# Altium footprint library Parts.PcbLib: 53 footprints (part 2 of 4)
Each footprint in its own frame and in the unit in brackets; x right, y up, seen from the top. Pads: shape width x height; smd on the part's side, far side on the other; paste and mask are expansions set on the pad; w line width, h text height; cw(c..) or ccw(c..) is an arc to the next point about the centre after c.
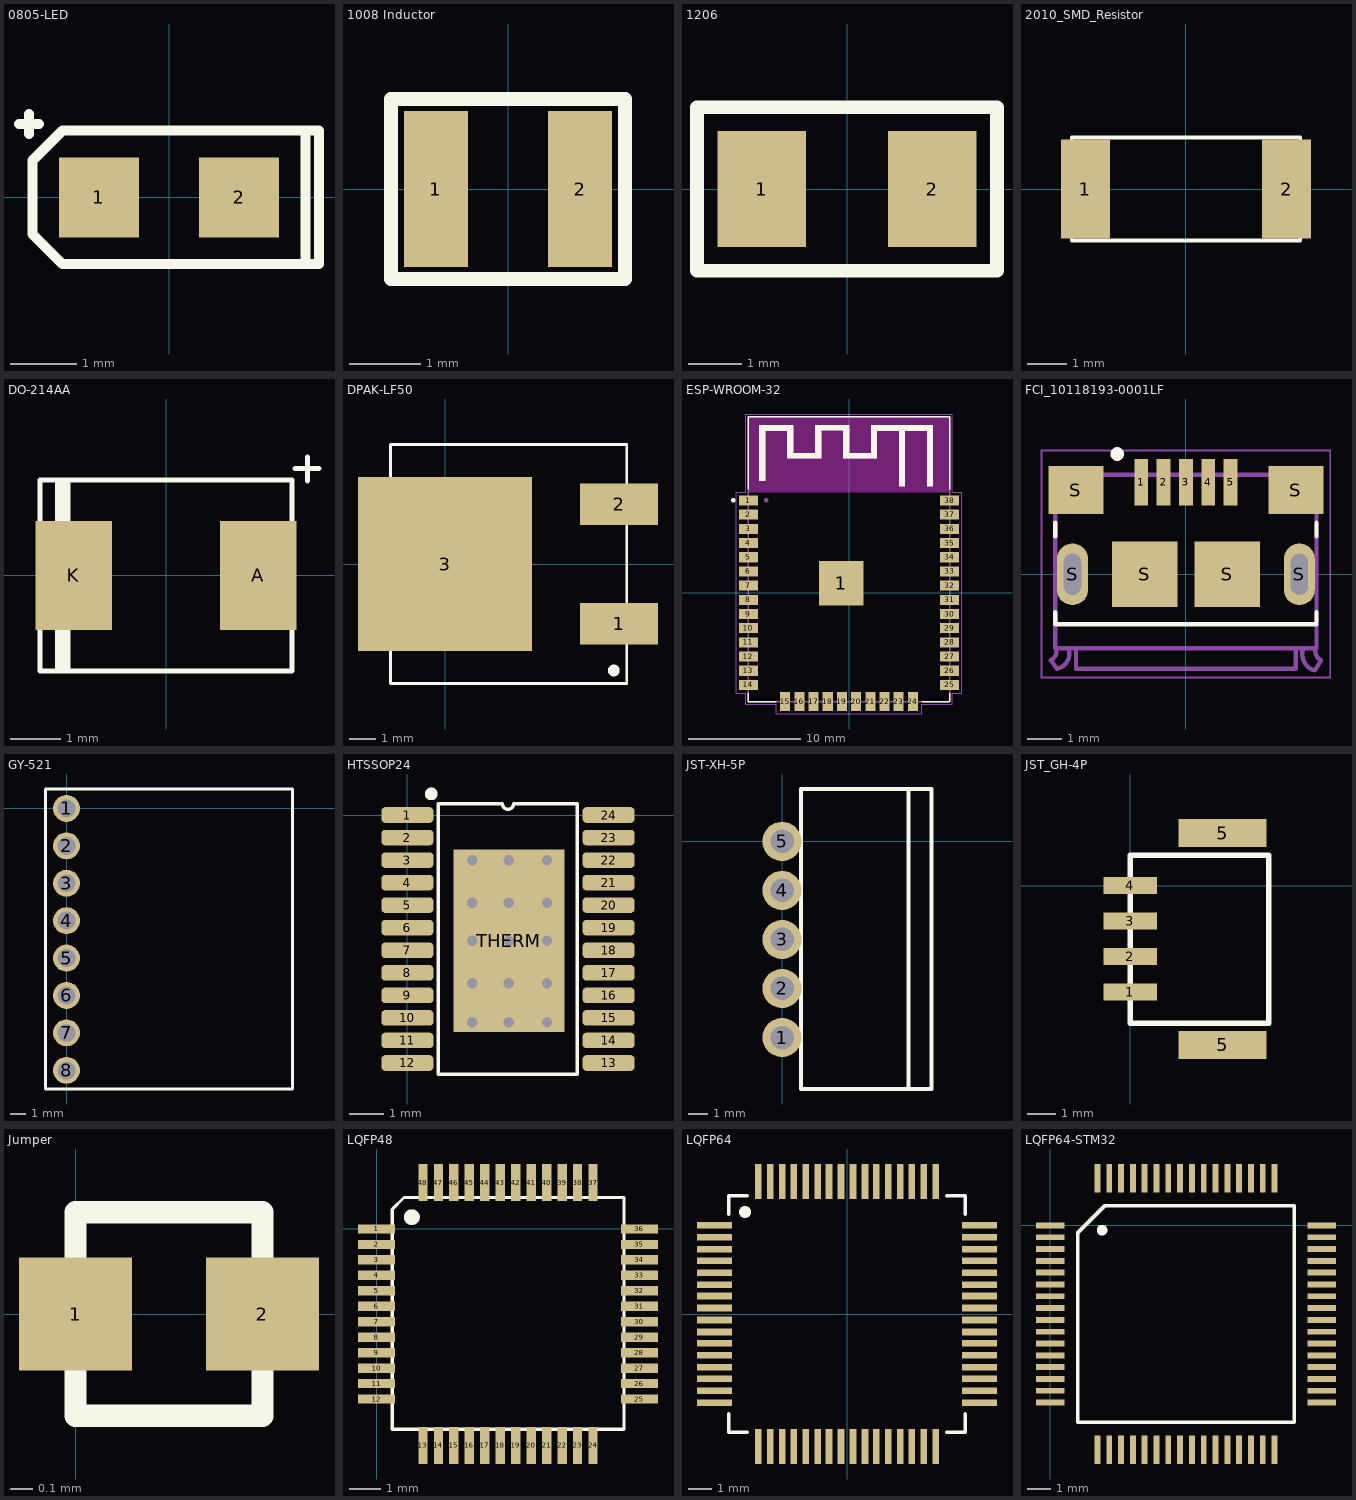
[diagram p1: the footprints below, top view; thin cyan lines are the x and y axes]

## 0805-LED [mm]
pads (2):
  rect 1.2x1.2 smd: 1(-1.05,0) 2(1.05,0)
Top Overlay:
  lines w0.15: -2.25,1.1 -1.95,1.1 ; -2.1,0.95 -2.1,1.25 ; 2.05,-1 2.05,1 ; -2.05,-0.55 -2.05,0 -2.05,0.55 -1.6,1 2.25,1 2.25,-1 -1.6,-1 -2.05,-0.55

## 1008 Inductor [mm]
pads (2):
  rect 0.9x2.2 smd: 1(-1.016,0) 2(1.016,0)
Top Overlay:
  lines w0.2: -1.651,-1.27 1.651,-1.27 1.651,1.27 -1.651,1.27 -1.651,0.351 -1.651,-1.27

## 1206 [mil]
pads (2):
  rect 65x85 smd: 1(-62.5,0) 2(62.5,0)
Top Overlay:
  lines w10: -110,-60 110,-60 110,60 -110,60 -110,12.5 -110,-60

## 2010_SMD_Resistor [mm]
pads (2):
  rect 1.245x2.54 smd: 1(-2.578,0) 2(2.579,0)
Top Overlay:
  lines w0.1: -2.931,-1.321 -2.931,0 -2.931,1.321 2.931,1.321 2.931,-1.321 -2.931,-1.321

## DO-214AA [mm]
pads (2):
  rect 1.52x2.18 smd: A(1.84,0) K(-1.839,0)
Top Overlay:
  rectangle: -2.159,-1.905 -1.905,1.905
  lines w0.1: -2.159,-1.905 -2.159,1.905 ; 2.565,2.134 3.048,2.134 ; 2.819,1.88 2.819,2.362 ; -2.509,-1.905 -2.509,0 -2.509,1.905 2.509,1.905 2.509,-1.905 -2.509,-1.905

## DPAK-LF50 [mm]
pads (3):
  rect 3x1.6 smd: 1(6.7,-2.3) 2(6.7,2.3)
  rect 6.7x6.7 smd: 3(0,0)
Top Overlay:
  circle w0.254: c6.5,-4.1 r0.1
  lines w0.1: -2.1,-4.6 -2.1,4.6 7,4.6 7,-4.6 -2.1,-4.6

## ESP-WROOM-32 [mm]
pads (39):
  rect 1.7x0.9 smd: 1(-9,8.255) 2(-9,6.985) 3(-9,5.715) 4(-9,4.445) 5(-9,3.175) 6(-9,1.905) 7(-9,0.635) 8(-9,-0.635) 9(-9,-1.905) 10(-9,-3.175) 11(-9,-4.445) 12(-9,-5.715) 13(-9,-6.985) 14(-9,-8.255) 25(9,-8.255) 26(9,-6.985) 27(9,-5.715) 28(9,-4.445) 29(9,-3.175) 30(9,-1.905) 31(9,-0.635) 32(9,0.635) 33(9,1.905) 34(9,3.175) 35(9,4.445) 36(9,5.715) 37(9,6.985) 38(9,8.255)
  rect 4x4 smd: 1(-0.7,0.845)
  rect 0.9x1.7 smd: 15(-5.715,-9.755) 16(-4.445,-9.755) 17(-3.175,-9.755) 18(-1.905,-9.755) 19(-0.635,-9.755) 20(0.635,-9.755) 21(1.905,-9.755) 22(3.175,-9.755) 23(4.445,-9.755) 24(5.715,-9.755)
Top Overlay:
  circle w0.2: c-10.365,8.275 r0.1
  region: 2.008,15 2.5,15 2.5,13.554 2.008,13.554
  region: -8.02,10.5 -7.5,10.5 -7.5,10.025 -8.02,10.025
  region: 4.508,10 5,10 5,9.517 4.508,9.517
  region: 7.019,10 7.5,10 7.5,9.526 7.019,9.526
  region: 4.514,15 5,15 5,10.031 4.514,10.031
  region: 7.021,15 7.5,15 7.5,10.03 7.021,10.03
  region: 2.012,15 7.5,15 7.5,14.514 2.012,14.514
  region: 2.009,14.5 2.5,14.5 2.5,12.053 2.009,12.053
  region: -0.502,12.5 2.5,12.5 2.5,12.05 -0.502,12.05
  region: -0.502,14.5 0,14.5 0,12.049 -0.502,12.049
  region: -3.01,15 0,15 0,14.549 -3.01,14.549
  region: -3.01,14.5 -2.5,14.5 -2.5,12.041 -3.01,12.041
  region: -5.508,12.5 -2.5,12.5 -2.5,12.018 -5.508,12.018
  region: -5.522,14.5 -5,14.5 -5,12.047 -5.522,12.047
  region: -8.009,15 -5,15 -5,14.516 -8.009,14.516
  region: -8.022,15 -7.5,15 -7.5,10.529 -8.022,10.529
  lines w0.127: -9,-9 -9,-9.75 -6.5,-9.75 ; -9,9.25 -9,15.75 9,15.75 9,9.25 ; 6.5,-9.75 9,-9.75 9,-9
Keep-Out Layer:
  region: -9.024,15.75 9,15.75 9,9.024 -9.024,9.024
  region: -9.012,15.75 9,15.75 9,9.012 -9.012,9.012
  region: -9.026,15.75 9,15.75 9,9.026 -9.026,9.026
  region: -9.024,15.75 9,15.75 9,9.024 -9.024,9.024
  region: -9.012,15.75 9,15.75 9,9.012 -9.012,9.012
  region: -9.026,15.75 9,15.75 9,9.026 -9.026,9.026
  region: -9.024,15.75 9,15.75 9,9.024 -9.024,9.024
  region: -9.012,15.75 9,15.75 9,9.012 -9.012,9.012
  region: -9.026,15.75 9,15.75 9,9.026 -9.026,9.026
Mechanical 4:
  circle w0.2: c-7.425,8.275 r0.1
  circle w0.2: c-7.425,8.275 r0.1
  region: 2.008,15 2.5,15 2.5,13.551 2.008,13.551
  region: -8.027,10.5 -7.5,10.5 -7.5,10.033 -8.027,10.033
  region: 4.523,10 5,10 5,9.548 4.523,9.548
  region: 7.022,10 7.5,10 7.5,9.529 7.022,9.529
  region: 4.515,15 5,15 5,10.033 4.515,10.033
  region: 7.026,15 7.5,15 7.5,10.037 7.026,10.037
  region: 2.015,15 7.5,15 7.5,14.541 2.015,14.541
  region: 2.008,14.5 2.5,14.5 2.5,12.046 2.008,12.046
  region: -0.501,12.5 2.5,12.5 2.5,12.012 -0.501,12.012
  region: -0.502,14.5 0,14.5 0,12.04 -0.502,12.04
  region: -3.006,15 0,15 0,14.531 -3.006,14.531
  region: -3.01,14.5 -2.5,14.5 -2.5,12.041 -3.01,12.041
  region: -5.516,12.5 -2.5,12.5 -2.5,12.034 -5.516,12.034
  region: -5.518,14.5 -5,14.5 -5,12.04 -5.518,12.04
  region: -8.041,15 -5,15 -5,14.574 -8.041,14.574
  region: -8.038,15 -7.5,15 -7.5,10.55 -8.038,10.55
  region: 2.008,15 2.5,15 2.5,13.551 2.008,13.551
  region: -8.027,10.5 -7.5,10.5 -7.5,10.033 -8.027,10.033
  region: 4.523,10 5,10 5,9.548 4.523,9.548
  region: 7.022,10 7.5,10 7.5,9.529 7.022,9.529
  region: 4.515,15 5,15 5,10.033 4.515,10.033
  region: 7.026,15 7.5,15 7.5,10.037 7.026,10.037
  region: 2.015,15 7.5,15 7.5,14.541 2.015,14.541
  region: 2.008,14.5 2.5,14.5 2.5,12.046 2.008,12.046
  region: -0.501,12.5 2.5,12.5 2.5,12.012 -0.501,12.012
  region: -0.502,14.5 0,14.5 0,12.04 -0.502,12.04
  region: -3.006,15 0,15 0,14.531 -3.006,14.531
  region: -3.01,14.5 -2.5,14.5 -2.5,12.041 -3.01,12.041
  region: -5.516,12.5 -2.5,12.5 -2.5,12.034 -5.516,12.034
  region: -5.518,14.5 -5,14.5 -5,12.04 -5.518,12.04
  region: -8.041,15 -5,15 -5,14.574 -8.041,14.574
  region: -8.038,15 -7.5,15 -7.5,10.55 -8.038,10.55
  lines w0.127: -9,-9.755 -9,15.745 ; -9,-9.755 9,-9.755 ; -9,-9.755 -9,15.745 ; -9,-9.755 9,-9.755 ; -9,15.745 9,15.745 ; -9,15.745 9,15.745 ; 9,-9.755 9,15.745 ; 9,-9.755 9,15.745
Mechanical 16:
  lines w0.05: -10.1,-9 -10.1,9 -9.25,9 -9.25,16 9.25,16 9.25,9 10.1,9 10.1,-9 9.25,-9 9.25,-10 6.5,-10 6.5,-10.855 -6.5,-10.855 -6.5,-10 -9.25,-10 -9.25,-9 -10.1,-9

## FCI_10118193-0001LF [mm]
pads (11):
  rect 0.4x1.35 smd: 1(-1.3,2.675) 2(-0.65,2.675) 3(0,2.675) 4(0.65,2.675) 5(1.3,2.675)
  oval 0.9x1.8 hole 0.5 slot 1.2 at 90 deg: S(-3.3,0) S(3.3,0)
  rect 1.6x1.4 smd: S(-3.2,2.45) S(3.2,2.45)
  rect 1.9x1.9 smd: S(-1.2,0) S(1.2,0)
Top Overlay:
  circle w0.2: c-2,3.5 r0.1
  lines w0.127: -3.8,-1.45 3.8,-1.45 ; -3.8,-1.4 -3.8,-1.1 ; -3.8,1.1 -3.8,1.5 ; 3.8,-1.4 3.8,-1.1 ; 3.8,1.1 3.8,1.5
Mechanical 13:
  lines w0.127: -3.93,-2.5 -3.75,-2.75 ; -3.93,-2.5 ccw(c-4.065,-2.235) -3.8,-2.1 ; -3.746,-2.749 ccw(c-3.85,-2.3) -3.401,-2.196 ; -3.2,-2.2 -3.2,-2.75 3.2,-2.75 3.2,-2.2 ; 3.401,-2.198 ccw(c3.875,-2.325) 3.748,-2.799 ; 3.75,-2.8 3.93,-2.5 ; 3.8,-2.1 ccw(c4.065,-2.235) 3.93,-2.5 ; -3.8,-2.1 -3.8,-2.15 3.8,-2.15 3.8,-1.45 3.8,2.9 -3.8,2.9 -3.8,-2.1
Mechanical 15:
  lines w0.05: -4.2,-3 -4.2,3.6 4.2,3.6 4.2,-3 -4.2,-3

## GY-521 [mm]
pads (8):
  round 1.8 hole 1.2: 1(0,0) 2(0,-2.5) 3(0,-5) 4(0,-7.5) 5(0,-10) 6(0,-12.5) 7(0,-15) 8(0,-17.5)
Top Overlay:
  lines w0.2: -1.4,-18.75 15.1,-18.75 15.1,1.3 -1.4,1.3 -1.4,-18.75

## HTSSOP24 [mm]
pads (25):
  rrect50% 1.5x0.45 smd mask+0.05: 1(0,0) 2(0,-0.65) 3(0,-1.3) 4(0,-1.95) 5(0,-2.6) 6(0,-3.25) 7(0,-3.9) 8(0,-4.55) 9(0,-5.2) 10(0,-5.85) 11(0,-6.5) 12(0,-7.15) 13(5.8,-7.15) 14(5.8,-6.5) 15(5.8,-5.85) 16(5.8,-5.2) 17(5.8,-4.55) 18(5.8,-3.9) 19(5.8,-3.25) 20(5.8,-2.6) 21(5.8,-1.95) 22(5.8,-1.3) 23(5.8,-0.65) 24(5.8,0)
  rect 3.2x5.26 smd: THERM(2.925,-3.625)
via 1.875,-1.3 diameter 0.457 hole 0.3
via 4.025,-1.3 diameter 0.457 hole 0.3
via 2.925,-3.625 diameter 0.457 hole 0.3
via 2.925,-1.3 diameter 0.457 hole 0.3
via 1.875,-3.625 diameter 0.457 hole 0.3
via 4.025,-3.625 diameter 0.457 hole 0.3
via 2.925,-5.975 diameter 0.457 hole 0.3
via 1.875,-5.975 diameter 0.457 hole 0.3
via 4.025,-5.975 diameter 0.457 hole 0.3
via 2.925,-4.85 diameter 0.457 hole 0.3
via 1.875,-4.85 diameter 0.457 hole 0.3
via 4.025,-4.85 diameter 0.457 hole 0.3
via 4.025,-2.525 diameter 0.457 hole 0.3
via 2.925,-2.525 diameter 0.457 hole 0.3
via 1.875,-2.525 diameter 0.457 hole 0.3
Top Layer:
  region: 1.325,-6.2
Top Overlay:
  circle w0.254: c0.686,0.61 r0.057
  lines w0.1: 0.889,-7.475 0.889,0.325 2.738,0.325 ccw(c2.9,0.325) 3.062,0.325 4.902,0.325 4.902,-7.475 0.889,-7.475

## JST-XH-5P [mm]
pads (5):
  round 2 hole 1.2: 1(0,-10) 2(0,-7.5) 3(0,-5) 4(0,-2.5) 5(0,0)
Top Overlay:
  lines w0.2: 6.452,-12.624 6.452,2.667 ; 0.965,-12.624 0.965,2.667 7.62,2.667 7.62,-12.624 0.965,-12.624

## JST_GH-4P [mm]
pads (6):
  rect 1.9x0.6 smd: 1(0,-3.75) 2(0,-2.5) 3(0,-1.25) 4(0,0)
  rect 3.1x1 smd: 5(3.251,-5.613) 5(3.251,1.854)
Top Overlay:
  lines w0.2: 0,-4.851 4.877,-4.851 4.877,1.067 0,1.067 0,-4.851

## Jumper [mil]
pads (2):
  rect 20x20 smd: 1(0,0) 2(33,0)
Top Overlay:
  lines w3.94: 0,-18 0,18 33,18 33,-18 0,-18

## LQFP48 [mm]
pads (48):
  rect 1.2x0.3 smd mask+0.03: 1(0,0) 2(0,-0.5) 3(0,-1) 4(0,-1.5) 5(0,-2) 6(0,-2.5) 7(0,-3) 8(0,-3.5) 9(0,-4) 10(0,-4.5) 11(0,-5) 12(0,-5.5) 25(8.5,-5.5) 26(8.5,-5) 27(8.5,-4.5) 28(8.5,-4) 29(8.5,-3.5) 30(8.5,-3) 31(8.5,-2.5) 32(8.5,-2) 33(8.5,-1.5) 34(8.5,-1) 35(8.5,-0.5) 36(8.5,0)
  rect 0.3x1.2 smd mask+0.03: 13(1.5,-7) 14(2,-7) 15(2.5,-7) 16(3,-7) 17(3.5,-7) 18(4,-7) 19(4.5,-7) 20(5,-7) 21(5.5,-7) 22(6,-7) 23(6.5,-7) 24(7,-7) 37(7,1.5) 38(6.5,1.5) 39(6,1.5) 40(5.5,1.5) 41(5,1.5) 42(4.5,1.5) 43(4,1.5) 44(3.5,1.5) 45(3,1.5) 46(2.5,1.5) 47(2,1.5) 48(1.5,1.5)
Top Overlay:
  circle w0.254: c1.143,0.381 r0.127
  lines w0.1: 0.508,-6.477 8.001,-6.477 8.001,1.016 0.889,1.016 0.508,0.635 0.508,-6.477

## LQFP64 [mil]
pads (64):
  rect 58x11 smd: 1(-221,148) 2(-221,128) 3(-221,108) 4(-221,89) 5(-221,69) 6(-221,49) 7(-221,30) 8(-221,10) 9(-221,-10) 10(-221,-30) 11(-221,-49) 12(-221,-69) 13(-221,-89) 14(-221,-108) 15(-221,-128) 16(-221,-148) 33(221,-148) 34(221,-128) 35(221,-108) 36(221,-89) 37(221,-69) 38(221,-49) 39(221,-30) 40(221,-10) 41(221,10) 42(221,30) 43(221,49) 44(221,69) 45(221,89) 46(221,108) 47(221,128) 48(221,148)
  rect 11x58 smd: 17(-148,-221) 18(-128,-221) 19(-108,-221) 20(-89,-221) 21(-69,-221) 22(-49,-221) 23(-30,-221) 24(-10,-221) 25(10,-221) 26(30,-221) 27(49,-221) 28(69,-221) 29(89,-221) 30(108,-221) 31(128,-221) 32(148,-221) 49(148,221) 50(128,221) 51(108,221) 52(89,221) 53(69,221) 54(49,221) 55(30,221) 56(10,221) 57(-10,221) 58(-30,221) 59(-49,221) 60(-69,221) 61(-89,221) 62(-108,221) 63(-128,221) 64(-148,221)
Top Overlay:
  circle w10: c-170,170 r5
  lines w6: -197,-166 -197,-197 -166,-197 ; -197,166 -197,197 -166,197 ; 166,-197 197,-197 197,-166 ; 166,197 197,197 197,166

## LQFP64-STM32 [mm]
pads (64):
  rect 1.2x0.25 smd: 1(0,0) 2(0,-0.5) 3(0,-1) 4(0,-1.5) 5(0,-2) 6(0,-2.5) 7(0,-3) 8(0,-3.5) 9(0,-4) 10(0,-4.5) 11(0,-5) 12(0,-5.5) 13(0,-6) 14(0,-6.5) 15(0,-7) 16(0,-7.5) 33(11.5,-7.5) 34(11.5,-7) 35(11.5,-6.5) 36(11.5,-6) 37(11.5,-5.5) 38(11.5,-5) 39(11.5,-4.5) 40(11.5,-4) 41(11.5,-3.5) 42(11.5,-3) 43(11.5,-2.5) 44(11.5,-2) 45(11.5,-1.5) 46(11.5,-1) 47(11.5,-0.5) 48(11.5,0)
  rect 0.25x1.2 smd: 17(2,-9.5) 18(2.5,-9.5) 19(3,-9.5) 20(3.5,-9.5) 21(4,-9.5) 22(4.5,-9.5) 23(5,-9.5) 24(5.5,-9.5) 25(6,-9.5) 26(6.5,-9.5) 27(7,-9.5) 28(7.5,-9.5) 29(8,-9.5) 30(8.5,-9.5) 31(9,-9.5) 32(9.5,-9.5) 49(9.5,2) 50(9,2) 51(8.5,2) 52(8,2) 53(7.5,2) 54(7,2) 55(6.5,2) 56(6,2) 57(5.5,2) 58(5,2) 59(4.5,2) 60(4,2) 61(3.5,2) 62(3,2) 63(2.5,2) 64(2,2)
Top Overlay:
  circle w0.254: c2.2,-0.2 r0.1
  lines w0.15: 1.16,-8.34 10.34,-8.34 10.34,0.84 2.32,0.84 1.16,-0.32 1.16,-8.34